# EAGLE library part 1/2MB_ROM (library Amiga)
ROM for 1MB ROMs and 2MB Variants with Switch on A20
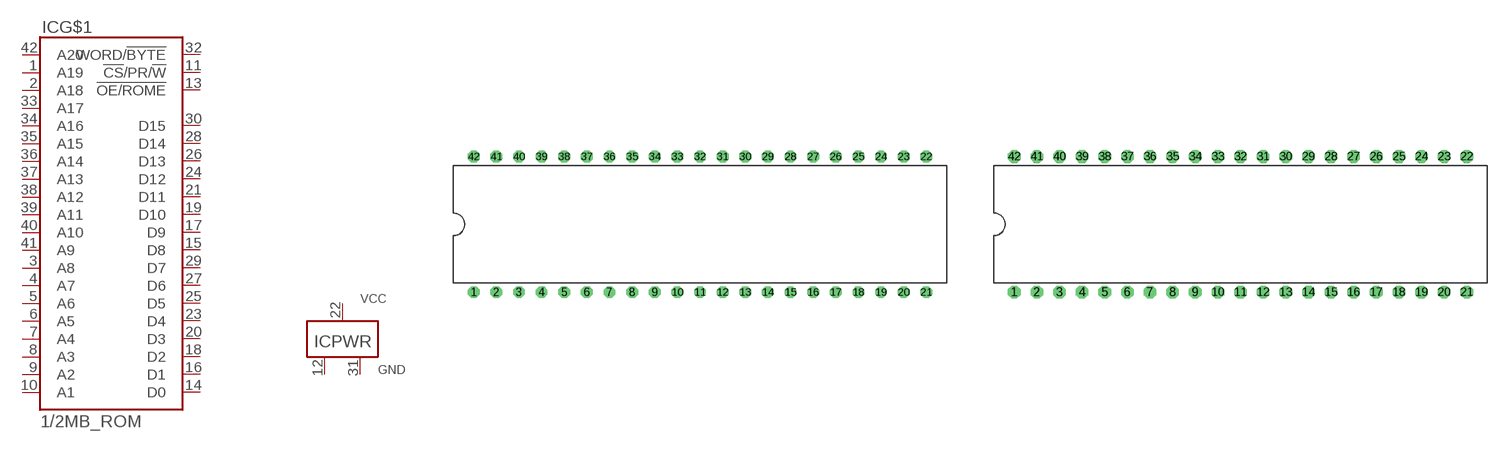
[diagram p11: symbol with the pads of DIP42-6; footprints DIP42-6, DIP42-6-WIDE]

Designator prefix IC; gates G$1=27C160 PWR=1VCC-2GND

## 1/2MB_ROM27C800  [DIP42-6]
1  G$1:A19
2  G$1:A18
3  G$1:A8
4  G$1:A7
5  G$1:A6
6  G$1:A5
7  G$1:A4
8  G$1:A3
9  G$1:A2
10  G$1:A1
11  G$1:!CS!/PR/!W!
12  PWR:GND  pwr
13  G$1:!OE/ROME
14  G$1:D0
15  G$1:D8
16  G$1:D1
17  G$1:D9
18  G$1:D2
19  G$1:D10
20  G$1:D3
21  G$1:D11
22  PWR:VCC  pwr
23  G$1:D4
24  G$1:D12
25  G$1:D5
26  G$1:D13
27  G$1:D6
28  G$1:D14
29  G$1:D7
30  G$1:D15
31  PWR:GND  pwr
32  G$1:WORD/!BYTE
33  G$1:A17
34  G$1:A16
35  G$1:A15
36  G$1:A14
37  G$1:A13
38  G$1:A12
39  G$1:A11
40  G$1:A10
41  G$1:A9
42  G$1:A20

## 1/2MB_ROM27C800-WIDE  [DIP42-6-WIDE]
Pads as for DIP42-6

## Footprint DIP42-6 (pad centres in mm)
drill 0.813 octagon: 1 -24.13,-7.62; 2 -21.59,-7.62; 3 -19.05,-7.62; 4 -16.51,-7.62; 5 -13.97,-7.62; 6 -11.43,-7.62; 7 -8.89,-7.62; 8 -6.35,-7.62; 9 -3.81,-7.62; 10 -1.27,-7.62; 11 1.27,-7.62; 12 3.81,-7.62; 13 6.35,-7.62; 14 8.89,-7.62; 15 11.43,-7.62; 16 13.97,-7.62; 17 16.51,-7.62; 18 19.05,-7.62; 19 21.59,-7.62; 20 24.13,-7.62; 21 26.67,-7.62; 22 26.67,7.62; 23 24.13,7.62; 24 21.59,7.62; 25 19.05,7.62; 26 16.51,7.62; 27 13.97,7.62; 28 11.43,7.62; 29 8.89,7.62; 30 6.35,7.62; 31 3.81,7.62; 32 1.27,7.62; 33 -1.27,7.62; 34 -3.81,7.62; 35 -6.35,7.62; 36 -8.89,7.62; 37 -11.43,7.62; 38 -13.97,7.62; 39 -16.51,7.62; 40 -19.05,7.62; 41 -21.59,7.62; 42 -24.13,7.62

## Footprint DIP42-6-WIDE (pad centres in mm)
drill 0.914 octagon: 1 -24.13,-7.62; 2 -21.59,-7.62; 3 -19.05,-7.62; 4 -16.51,-7.62; 5 -13.97,-7.62; 6 -11.43,-7.62; 7 -8.89,-7.62; 8 -6.35,-7.62; 9 -3.81,-7.62; 10 -1.27,-7.62; 11 1.27,-7.62; 12 3.81,-7.62; 13 6.35,-7.62; 14 8.89,-7.62; 15 11.43,-7.62; 16 13.97,-7.62; 17 16.51,-7.62; 18 19.05,-7.62; 19 21.59,-7.62; 20 24.13,-7.62; 21 26.67,-7.62; 22 26.67,7.62; 23 24.13,7.62; 24 21.59,7.62; 25 19.05,7.62; 26 16.51,7.62; 27 13.97,7.62; 28 11.43,7.62; 29 8.89,7.62; 30 6.35,7.62; 31 3.81,7.62; 32 1.27,7.62; 33 -1.27,7.62; 34 -3.81,7.62; 35 -6.35,7.62; 36 -8.89,7.62; 37 -11.43,7.62; 38 -13.97,7.62; 39 -16.51,7.62; 40 -19.05,7.62; 41 -21.59,7.62; 42 -24.13,7.62